# EAGLE library part FM24V02A-G (library FM24V02A-G)
Cypress Semiconductor FM24V02A-G Serial-I2C FRAM Memory, 256kbit, 2 3.6 V SOIC 8-Pin Source: Datasheet <https://ms.componentsearchengine.com/Datasheets/2/FM24V02A-G.pdf>
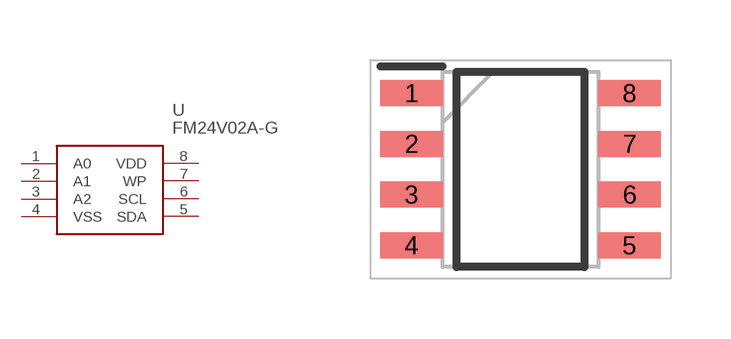
[diagram p0: symbol with the pads of SOIC127P602X173-8N; footprint SOIC127P602X173-8N]

Designator prefix U

## FM24V02A-G (Description: Cypress Semiconductor FM24V02A-G Serial-I2C FRAM Memory, 256kbit, 2 3.6 V SOIC 8-Pin; Height: 1.727mm; Manufacturer_Name: Infineon; Manufacturer_Part_Number: FM24V02A-G; Mouser_Part_Number: 727-FM24V02A-G; Mouser_Price-Stock: https://www.mouser.co.uk/ProductDetail/Cypress-Semiconductor/FM24V02A-G/?qs=ILgNtqsyH23xixHZ0uhhNg%3D%3D)  [SOIC127P602X173-8N]
1  A0
2  A1
3  A2
4  VSS
5  SDA
6  SCL
7  WP
8  VDD

## Footprint SOIC127P602X173-8N (pad centres in mm)
FM24V02A-G
smd 1.551 x 0.65: 1 -2.725,1.905; 2 -2.725,0.635; 3 -2.725,-0.635; 4 -2.725,-1.905; 5 2.725,-1.905; 6 2.725,-0.635; 7 2.725,0.635; 8 2.725,1.905